# Altium integrated library Inductors.IntLib: 2 symbols
Pins are listed as number, name and electrical type; pins without a type are passive.

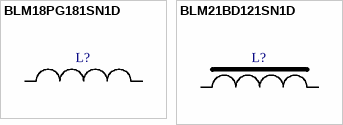
[diagram p0: symbols BLM18PG181SN1D to BLM21BD121SN1D]

## BLM18PG181SN1D
designator L?  (value not drawn)
Ferrite Bead 0603 180 Ohm; Manufacturer: Murata; Value: 180 Ohm; 1Ccode: М00027852; 1Cname: BLM18PG181SN1D; 1Cgroup: 01010901; 1Carticle: 16458; Name: Фильтр BLM18PG181SN1D; Tolerance: 25%; RatedCurrent: 1.5A; DCResistance: 0.09 Ohm; 1CfullName: BLM18PG181SN1D; PartNumber: BLM18PG181SN1D; ComponentLink1Description: DatasheetLink; ComponentLink1URL: *; Case: 0603
footprint IND0603 (Chip Inductor, 2-Leads, Body 1,60x0,8mm, IPC Low Density)
pins: 1, 2

## BLM21BD121SN1D
designator L?  (value not drawn)
Ferrite Bead 0805 120 Ohm; Manufacturer: Murata; PartNumber: BLM21BD121SN1D; Value: 120 Ohm; 1Ccode: М00053470; 1Cname: BLM21BD121SN1D MUR; 1Cgroup: 01010901; 1Carticle: 42076; Name: Фильтр BLM21BD121SN1D; Tolerance: 25%; RatedCurrent: 200mA; DCResistance: 0.25 Ohm; 1CfullName: BLM21BD121SN1D MUR; ComponentLink1Description: DatasheetLink; ComponentLink1URL: *; Case: 0805
footprint IND0805 (Chip Inductor, 2-Leads, Body 2,00x1,25mm, IPC Low Density)
pins: 1, 2